# EAGLE library part PCA9555 (library LARS_409_MC)
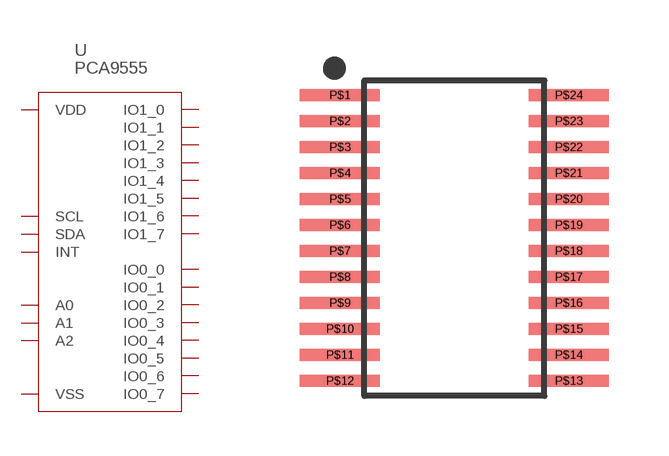
[diagram p44: symbol with the pads of TSSOP-24; footprint TSSOP-24]

Designator prefix U

## PCA9555  [TSSOP-24]
P$1  INT
P$2  A1
P$3  A2
P$4  IO0_0
P$5  IO0_1
P$6  IO0_2
P$7  IO0_3
P$8  IO0_4
P$9  IO0_5
P$10  IO0_6
P$11  IO0_7
P$12  VSS
P$13  IO1_0
P$14  IO1_1
P$15  IO1_2
P$16  IO1_3
P$17  IO1_4
P$18  IO1_5
P$19  IO1_6
P$20  IO1_7
P$21  A0
P$22  SCL
P$23  SDA
P$24  VDD

## Footprint TSSOP-24 (pad centres in mm)
smd 2 x 0.3: P$1 -2.86,3.575; P$2 -2.86,2.925; P$3 -2.86,2.275; P$4 -2.86,1.625; P$5 -2.86,0.975; P$6 -2.86,0.325; P$7 -2.86,-0.325; P$8 -2.86,-0.975; P$9 -2.86,-1.625; P$10 -2.86,-2.275; P$11 -2.86,-2.925; P$12 -2.86,-3.575; P$13 2.86,-3.575; P$14 2.86,-2.925; P$15 2.86,-2.275; P$16 2.86,-1.625; P$17 2.86,-0.975; P$18 2.86,-0.325; P$19 2.86,0.325; P$20 2.86,0.975; P$21 2.86,1.625; P$22 2.86,2.275; P$23 2.86,2.925; P$24 2.86,3.575